# Altium schematic symbol library AMS1117-3.3.Schlib: 1 symbol
Pins are listed as number, name and electrical type; pins without a type are passive.

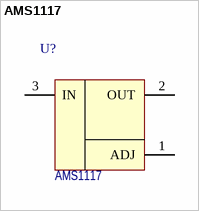
[diagram p0: symbol AMS1117]

## AMS1117
designator U?
Low-drop linear regulator; Назначение: Линейный регулятор; Потребление, Вт: 0,100; ComponentLink1Description: DataSheet; ComponentLink1URL: https://www.radiant.su/files/images/Kremhij-marketing/1278EP1T.pdf; Наименование: AMS1117
footprint SOT89 (SOT89, 3-Leads, Body 4,50x2,45mm, Pitch 1,50mm, Lead Span 4,1mm, IPC Medium Density)
footprint SOT-223 (SOT223, 4-Leads, Body 6,50x7,00mm (avg), Pitch 2,30mm, IPC Medium Density)
pins: 1 ADJ, 2 OUT, 3 IN